# Altium footprint library Generic PMD.PcbLib: 85 footprints (part 5 of 6)
Each footprint in its own frame and in the unit in brackets; x right, y up, seen from the top. Pads: shape width x height; smd on the part's side, far side on the other; paste and mask are expansions set on the pad; w line width, h text height; cw(c..) or ccw(c..) is an arc to the next point about the centre after c.
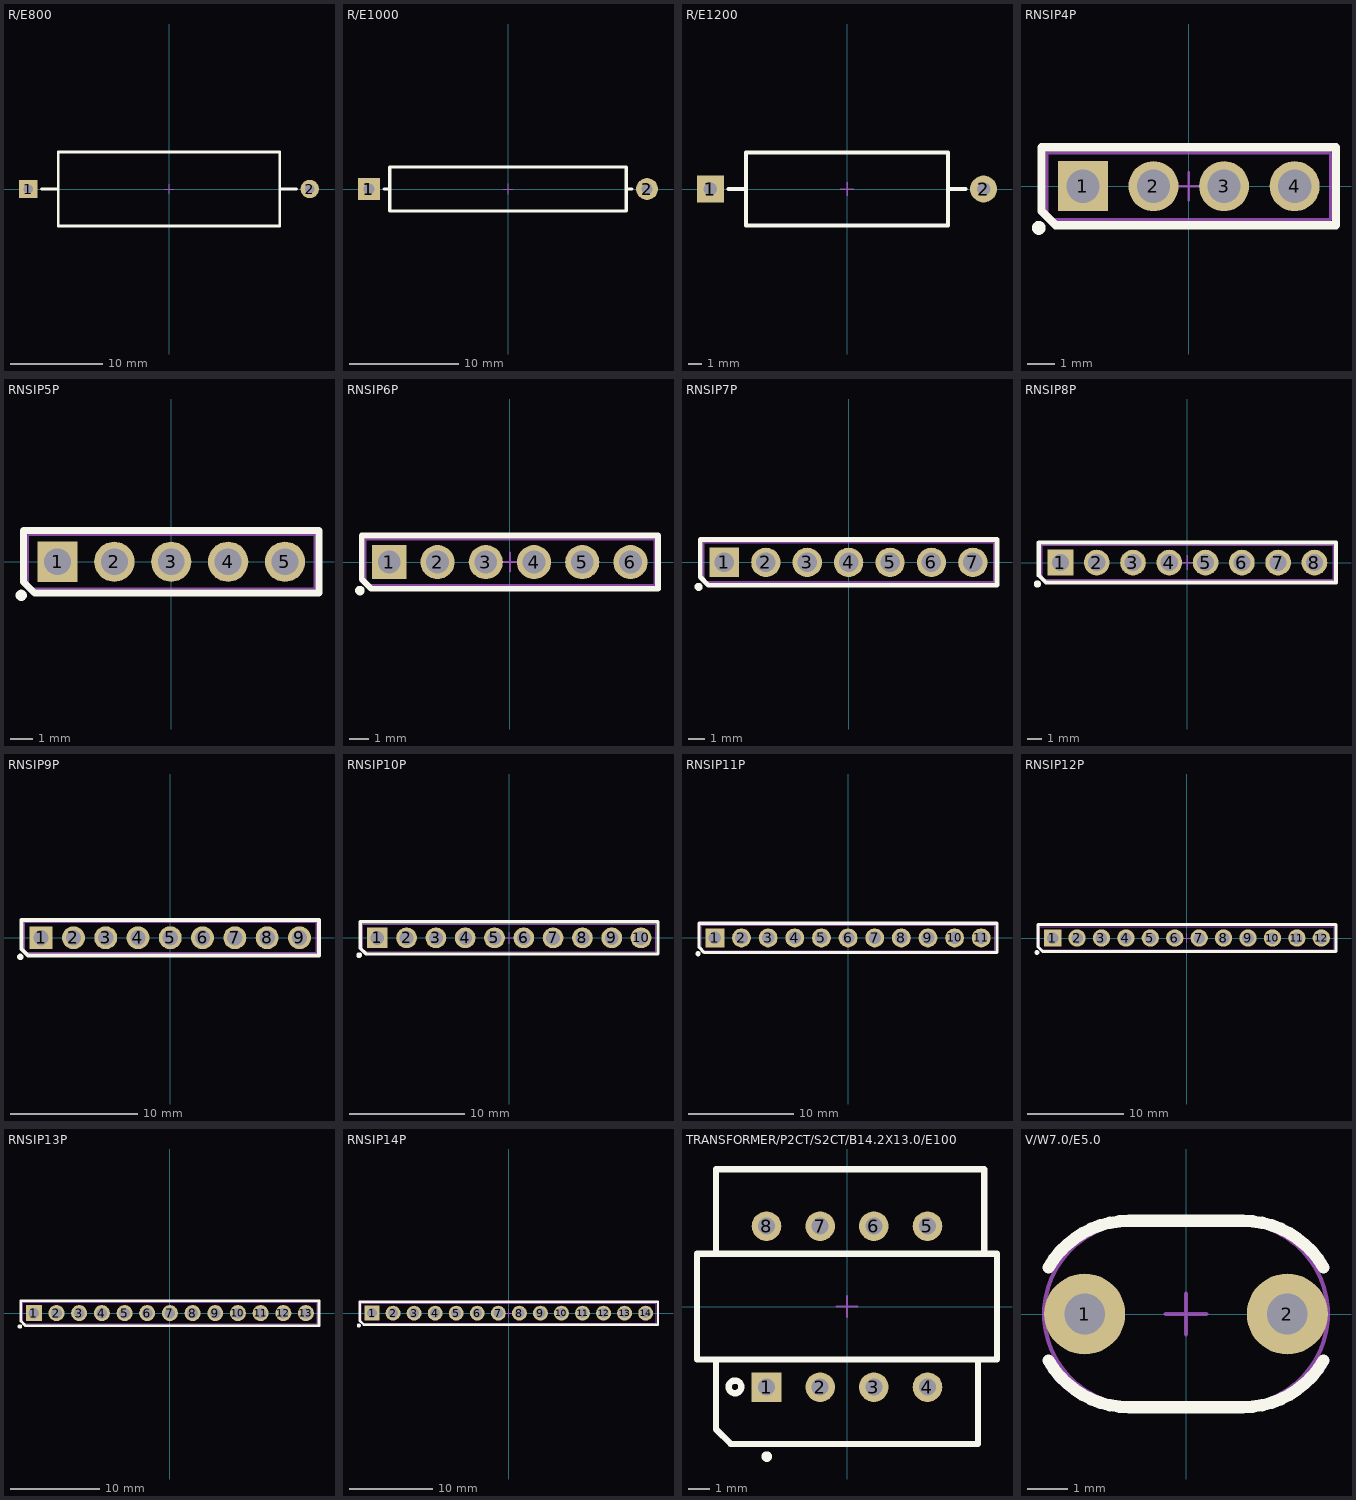
[diagram p4: the footprints below, top view; thin cyan lines are the x and y axes]

## R/E800 [mm] "Resistor; Body 15.0x5.5mm (LxDia. max); Pitch 800mil/20.32mm."
height 5.5
pads (2):
  rect 2x2 hole 1: 1(-15.24,0)
  round 2 hole 1: 2(15.24,0)
Top Overlay:
  lines w0.3: -13.8,0 -12,0 ; 12,0 13.8,0 ; -12,-4 -12,4 12,4 12,-4 -12,-4
Package:
  lines w0.1: -12,-4 -12,4 12,4 12,-4 -12,-4
Courtyard:
  lines w0.1: -0.5,0 0.5,0 ; 0,-0.5 0,0.5
3D body: height 0, standoff 0, extent -12,-4 12,4

## R/E1000 [mm] "Resistor; Body Width 8mm (LxDia. max); Pitch 1000mil/25.40mm."
height 8
pads (2):
  rect 2x2 hole 1: 1(-12.7,0)
  round 2 hole 1: 2(12.7,0)
Top Overlay:
  lines w0.3: -11.3,0 -10.8,0 ; 10.8,0 11.3,0 ; -10.8,-2 -10.8,2 10.8,2 10.8,-2 -10.8,-2
Courtyard:
  lines w0.1: -0.5,0 0.5,0 ; 0,-0.5 0,0.5

## R/E1200 [mm] "Resistor; Body 24.0x8.0mm (LxDia. max); Pitch 1200mil/30.48mm."
height 8
pads (2):
  rect 2x2 hole 1: 1(-10.16,0)
  round 2 hole 1: 2(10.16,0)
Top Overlay:
  lines w0.3: -8.8,0 -7.5,0 ; 7.5,0 8.8,0 ; -7.5,-2.7 -7.5,2.7 7.5,2.7 7.5,-2.7 -7.5,-2.7
Package:
  lines w0.1: -7.5,-2.75 -7.5,2.75 7.5,2.75 7.5,-2.75 -7.5,-2.75
Courtyard:
  lines w0.1: -0.5,0 0.5,0 ; 0,-0.5 0,0.5
3D body: height 0, standoff 0, extent -7.5,-2.75 7.5,2.75

## RNSIP4P [mm] "4Pin SIP Resistor; Body 10.16x2.41x4.95mm; Pitch 100mil/2.54mm;"
height 4.95
pads (4):
  rect 1.8x1.8 hole 1.2: 1(-3.81,0)
  round 1.8 hole 1.2: 2(-1.27,0) 3(1.27,0) 4(3.81,0)
Top Overlay:
  circle w0.3: c-5.4,-1.5 r0.1
  lines w0.3: -5.3,-0.9 -5.3,1.4 5.3,1.4 5.3,-1.4 -4.8,-1.4 -5.3,-0.9
Package:
  lines w0.1: -5.1,-1.2 5.1,-1.2 5.1,1.2 -5.1,1.2 -5.1,-1.2
Courtyard:
  lines w0.1: -0.5,0 0.5,0 ; 0,-0.5 0,0.5
3D body: height 5, standoff 0, extent -5.1,-1.2 5.1,1.2

## RNSIP5P [mm] "5Pin SIP Resistor; Body 12.7x2.41x4.95mm; Pitch 100mil/2.54mm;"
height 4.95
pads (5):
  rect 1.8x1.8 hole 1.2: 1(-5.08,0)
  round 1.8 hole 1.2: 2(-2.54,0) 3(0,0) 4(2.54,0) 5(5.08,0)
Top Overlay:
  circle w0.3: c-6.7,-1.5 r0.1
  lines w0.3: -6.6,-0.9 -6.6,1.4 6.6,1.4 6.6,-1.4 -6.1,-1.4 -6.6,-0.9
Package:
  lines w0.1: -6.4,-1.2 6.4,-1.2 6.4,1.2 -6.4,1.2 -6.4,-1.2
Courtyard:
  lines w0.1: -0.5,0 0.5,0 ; 0,-0.5 0,0.5
3D body: height 5, standoff 0, extent -6.4,-1.2 6.4,1.2

## RNSIP6P [mm] "6Pin SIP Resistor; Body 15.24x2.41x4.95mm; Pitch 100mil/2.54mm;"
height 4.95
pads (6):
  rect 1.8x1.8 hole 1.2: 1(-6.35,0)
  round 1.8 hole 1.2: 2(-3.81,0) 3(-1.27,0) 4(1.27,0) 5(3.81,0) 6(6.35,0)
Top Overlay:
  circle w0.3: c-7.9,-1.5 r0.1
  lines w0.3: -7.8,-0.9 -7.8,1.4 7.8,1.4 7.8,-1.4 -7.3,-1.4 -7.8,-0.9
Package:
  lines w0.1: -7.6,-1.2 7.6,-1.2 7.6,1.2 -7.6,1.2 -7.6,-1.2
Courtyard:
  lines w0.1: -0.5,0 0.5,0 ; 0,-0.5 0,0.5
3D body: height 5, standoff 0, extent -7.6,-1.2 7.6,1.2

## RNSIP7P [mm] "7Pin SIP Resistor; Body 17.78x2.41x4.95mm; Pitch 100mil/2.54mm;"
height 4.95
pads (7):
  rect 1.8x1.8 hole 1.2: 1(-7.62,0)
  round 1.8 hole 1.2: 2(-5.08,0) 3(-2.54,0) 4(0,0) 5(2.54,0) 6(5.08,0) 7(7.62,0)
Top Overlay:
  circle w0.3: c-9.2,-1.5 r0.1
  lines w0.3: -9.1,-0.9 -8.6,-1.4 9.1,-1.4 9.1,1.4 -9.1,1.4 -9.1,-0.9
Package:
  lines w0.1: -8.9,-1.2 -8.9,1.2 8.9,1.2 8.9,-1.2 -8.9,-1.2
Courtyard:
  lines w0.1: -0.5,0 0.5,0 ; 0,-0.5 0,0.5
3D body: height 5, standoff 0, extent -8.9,-1.2 8.9,1.2

## RNSIP8P [mm] "8Pin SIP Resistor; Body 20.32x2.41x4.95mm; Pitch 100mil/2.54mm;"
height 4.95
pads (8):
  rect 1.8x1.8 hole 1.2: 1(-8.89,0)
  round 1.8 hole 1.2: 2(-6.35,0) 3(-3.81,0) 4(-1.27,0) 5(1.27,0) 6(3.81,0) 7(6.35,0) 8(8.89,0)
Top Overlay:
  circle w0.3: c-10.5,-1.5 r0.1
  lines w0.3: -10.4,-0.9 -10.4,1.4 10.4,1.4 10.4,-1.4 -9.9,-1.4 -10.4,-0.9
Package:
  lines w0.1: -10.2,-1.2 -10.2,1.2 10.2,1.2 10.2,-1.2 -10.2,-1.2
Courtyard:
  lines w0.1: -0.5,0 0.5,0 ; 0,-0.5 0,0.5
3D body: height 5, standoff 0, extent -10.2,-1.2 10.2,1.2

## RNSIP9P [mm] "9Pin SIP Resistor; Body 22.86x2.41x4.95mm; Pitch 100mil/2.54mm;"
height 4.95
pads (9):
  rect 1.8x1.8 hole 1.2: 1(-10.16,0)
  round 1.8 hole 1.2: 2(-7.62,0) 3(-5.08,0) 4(-2.54,0) 5(0,0) 6(2.54,0) 7(5.08,0) 8(7.62,0) 9(10.16,0)
Top Overlay:
  circle w0.3: c-11.8,-1.5 r0.1
  lines w0.3: -11.7,-0.9 -11.7,1.4 11.7,1.4 11.7,-1.4 -11.2,-1.4 -11.7,-0.9
Package:
  lines w0.1: -11.5,-1.2 11.5,-1.2 11.5,1.2 -11.5,1.2 -11.5,-1.2
Courtyard:
  lines w0.1: -0.5,0 0.5,0
3D body: height 5, standoff 0, extent -11.5,-1.2 11.5,1.2

## RNSIP10P [mm] "10Pin SIP Resistor; Body 25.40x2.41x4.95mm; Pitch 100mil/2.54mm;"
height 4.95
pads (10):
  rect 1.8x1.8 hole 1.2: 1(-11.43,0)
  round 1.8 hole 1.2: 2(-8.89,0) 3(-6.35,0) 4(-3.81,0) 5(-1.27,0) 6(1.27,0) 7(3.81,0) 8(6.35,0) 9(8.89,0) 10(11.43,0)
Top Overlay:
  circle w0.3: c-13,-1.5 r0.1
  lines w0.3: -12.9,-0.9 -12.4,-1.4 12.9,-1.4 12.9,1.4 -12.9,1.4 -12.9,-0.9
Package:
  lines w0.1: -12.7,-1.2 12.7,-1.2 12.7,1.2 -12.7,1.2 -12.7,-1.2
Courtyard:
  lines w0.1: -0.5,0 0.5,0 ; 0,-0.5 0,0.5
3D body: height 5, standoff 0, extent -12.7,-1.2 12.7,1.2

## RNSIP11P [mm] "11Pin SIP Resistor; Body 27.94x2.41x4.95mm; Pitch 100mil/2.54mm;"
height 4.95
pads (11):
  rect 1.8x1.8 hole 1.2: 1(-12.7,0)
  round 1.8 hole 1.2: 2(-10.16,0) 3(-7.62,0) 4(-5.08,0) 5(-2.54,0) 6(0,0) 7(2.54,0) 8(5.08,0) 9(7.62,0) 10(10.16,0) 11(12.7,0)
Top Overlay:
  circle w0.3: c-14.3,-1.5 r0.1
  lines w0.3: -14.2,-0.9 -14.2,1.4 14.2,1.4 14.2,-1.4 -13.7,-1.4 -14.2,-0.9
Package:
  lines w0.1: -14,-1.2 -14,1.2 14,1.2 14,-1.2 -14,-1.2
Courtyard:
  lines w0.1: -0.5,0 0.5,0 ; 0,-0.5 0,0.5
3D body: height 5, standoff 0, extent -14,-1.2 14,1.2

## RNSIP12P [mm] "12Pin SIP Resistor; Body 30.48x2.41x4.95mm; Pitch 100mil/2.54mm;"
height 4.95
pads (12):
  rect 1.8x1.8 hole 1.2: 1(-13.97,0)
  round 1.8 hole 1.2: 2(-11.43,0) 3(-8.89,0) 4(-6.35,0) 5(-3.81,0) 6(-1.27,0) 7(1.27,0) 8(3.81,0) 9(6.35,0) 10(8.89,0) 11(11.43,0) 12(13.97,0)
Top Overlay:
  circle w0.3: c-15.6,-1.5 r0.1
  lines w0.3: -15.5,-0.9 -15.5,1.4 15.5,1.4 15.5,-1.4 -15,-1.4 -15.5,-0.9
Package:
  lines w0.1: -15.3,-1.2 -15.3,1.2 15.3,1.2 15.3,-1.2 -15.3,-1.2
Courtyard:
  lines w0.1: -0.5,0 0.5,0 ; 0,-0.5 0,0.5
3D body: height 5, standoff 0, extent -15.3,-1.2 15.3,1.2

## RNSIP13P [mm] "13Pin SIP Resistor; Body 33.02x2.41x4.95mm; Pitch 100mil/2.54mm;"
height 4.95
pads (13):
  rect 1.8x1.8 hole 1.2: 1(-15.24,0)
  round 1.8 hole 1.2: 2(-12.7,0) 3(-10.16,0) 4(-7.62,0) 5(-5.08,0) 6(-2.54,0) 7(0,0) 8(2.54,0) 9(5.08,0) 10(7.62,0) 11(10.16,0) 12(12.7,0) 13(15.24,0)
Top Overlay:
  circle w0.3: c-16.8,-1.5 r0.1
  lines w0.3: -16.7,-0.9 -16.7,1.4 16.7,1.4 16.7,-1.4 -16.2,-1.4 -16.7,-0.9
Package:
  lines w0.1: -16.5,-1.2 16.5,-1.2 16.5,1.2 -16.5,1.2 -16.5,-1.2
Courtyard:
  lines w0.1: -0.5,0 0.5,0 ; 0,-0.5 0,0.5
3D body: height 5, standoff 0, extent -16.5,-1.2 16.5,1.2

## RNSIP14P [mm] "14Pin SIP Resistor; Body 35.56x2.41x4.95mm; Pitch 100mil/2.54mm;"
height 4.95
pads (14):
  rect 1.8x1.8 hole 1.2: 1(-16.51,0)
  round 1.8 hole 1.2: 2(-13.97,0) 3(-11.43,0) 4(-8.89,0) 5(-6.35,0) 6(-3.81,0) 7(-1.27,0) 8(1.27,0) 9(3.81,0) 10(6.35,0) 11(8.89,0) 12(11.43,0) 13(13.97,0) 14(16.51,0)
Top Overlay:
  circle w0.3: c-18.1,-1.5 r0.1
  lines w0.3: -18,-0.9 -18,1.4 18,1.4 18,-1.4 -17.5,-1.4 -18,-0.9
Package:
  lines w0.1: -17.8,-1.2 -17.8,1.2 17.8,1.2 17.8,-1.2 -17.8,-1.2
Courtyard:
  lines w0.1: -0.5,0 0.5,0 ; 0,-0.5 0,0.5
3D body: height 5, standoff 0, extent -17.8,-1.2 17.8,1.2

## TRANSFORMER/P2CT/S2CT/B14.2X13.0/E100 [mm] "Transformer; Primary 2CT; Secondary 2CT; Body 14.5x13.0x10.0mm/Pitch 2.54mm/100mil;"
height 14
pads (8):
  rect 1.4x1.4 hole 0.8: 1(-3.81,-3.81)
  round 1.4 hole 0.8: 2(-1.27,-3.81) 3(1.27,-3.81) 4(3.81,-3.81) 5(3.81,3.81) 6(1.27,3.81) 7(-1.27,3.81) 8(-3.81,3.81)
Top Overlay:
  circle w0.3: c-5.3,-3.8 r0.3
  circle w0.3: c-3.8,-7.1 r0.1
  lines w0.3: -6.2,-2.5 -6.2,-5.8 -5.5,-6.5 6.2,-6.5 6.2,-2.5 ; -6.2,2.5 -6.2,6.5 6.5,6.5 6.5,2.5 ; -7.1,-2.5 7.1,-2.5 7.1,2.5 -7.1,2.5 -7.1,-2.5
Package:
  lines w0.1: -6.2,-2.5 -6.2,-5.8 -5.5,-6.5 6.2,-6.5 6.2,-2.5 ; -6.2,2.5 -6.2,6.5 6.5,6.5 6.5,2.5 ; -7.1,-2.5 -7.1,2.5 7.1,2.5 7.1,-2.5 -7.1,-2.5
Courtyard:
  lines w0.1: -0.5,0 0.5,0 ; 0,-0.5 0,0.5
3D body: height 10, standoff 0, extent -7.1,-6.5 7.1,6.5

## V/W7.0/E5.0 [mm] "Generic Varistor; Body Width 7.0mm; Pitch 5.0mm"
height 10
pads (2):
  round 2 hole 1: 1(-2.5,0) 2(2.5,0)
Top Overlay:
  lines w0.3: -3.392,-1.15 ccw(c-1.4,0) -1.4,-2.3 1.4,-2.3 ccw(c1.4,0) 3.392,-1.15 ; -3.392,1.15 cw(c-1.4,0) -1.4,2.3 1.4,2.3 cw(c1.4,0) 3.392,1.15
Package:
  lines w0.1: -1.25,-2.25 cw(c-1.25,0) -1.25,2.25 1.25,2.25 cw(c1.25,0) 1.25,-2.25 -1.25,-2.25
Courtyard:
  lines w0.1: -0.5,0 0.5,0 ; 0,-0.5 0,0.5
3D body: height 10, standoff 0, extent -3.5,-2.25 3.5,2.25